# Altium footprint library 964372878.PcbLib: 1 footprints
Each footprint in its own frame and in the unit in brackets; x right, y up, seen from the top. Pads: shape width x height; smd on the part's side, far side on the other; paste and mask are expansions set on the pad; w line width, h text height; cw(c..) or ccw(c..) is an arc to the next point about the centre after c.
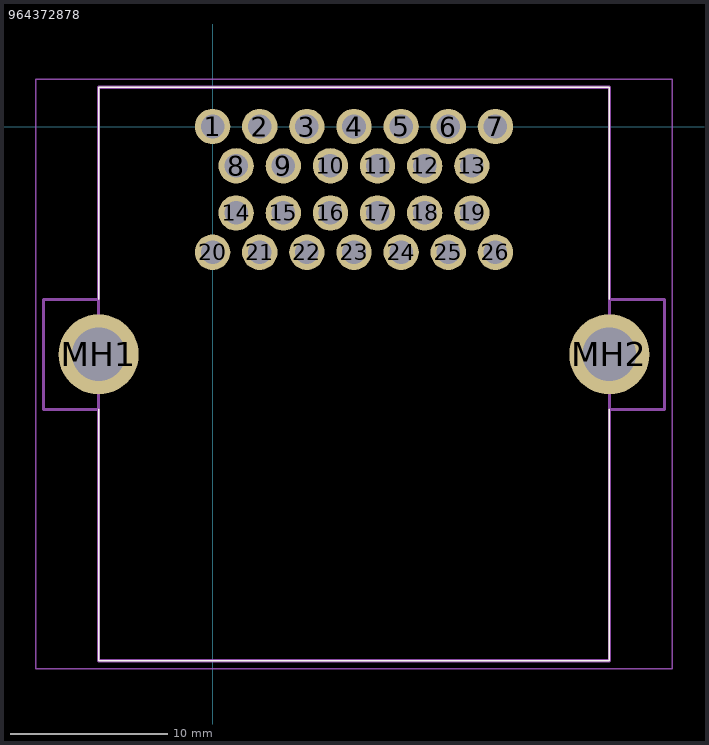
[diagram p0: the footprint, top view; thin cyan lines are the x and y axes]

## 964372878 [mm]
pads (28):
  round 2.25 hole 1.5: 1(0,0) 2(3,0) 3(6,0) 4(9,0) 5(12,0) 6(15,0) 7(18,0) 8(1.5,-2.5) 9(4.5,-2.5) 10(7.5,-2.5) 11(10.5,-2.5) 12(13.5,-2.5) 13(16.5,-2.5) 14(1.5,-5.5) 15(4.5,-5.5) 16(7.5,-5.5) 17(10.5,-5.5) 18(13.5,-5.5) 19(16.5,-5.5) 20(0,-8) 21(3,-8) 22(6,-8) 23(9,-8) 24(12,-8) 25(15,-8) 26(18,-8)
  round 5.1 hole 3.4: MH1(-7.25,-14.5) MH2(25.25,-14.5)
Top Overlay:
  lines w0.1: -7.25,-18 -7.25,-34 25.25,-34 25.25,-18 ; -7.25,-11 -7.25,2.5 25.25,2.5 25.25,-11
Mechanical 15:
  lines w0.2: -10.75,-18 -10.75,-11 -7.25,-11 -7.25,-18 -10.75,-18 ; -7.25,-34 25.25,-34 25.25,2.5 -7.25,2.5 -7.25,-34 ; 25.25,-18 28.75,-18 28.75,-11 25.25,-11 25.25,-18
Mechanical 20:
  lines w0.1: -11.25,-34.5 29.25,-34.5 29.25,3 -11.25,3 -11.25,-34.5